# EAGLE library part NDS8434 (library Discrete)
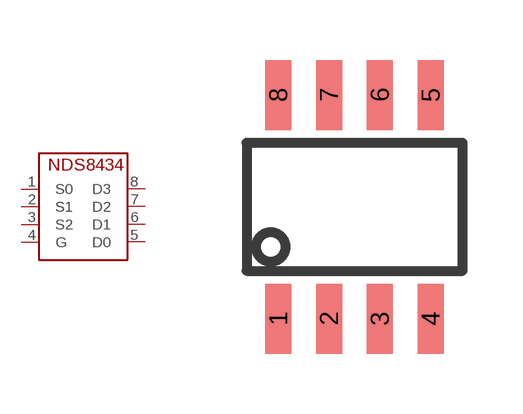
[diagram p17: symbol with the pads of SOIC8; footprint SOIC8]

Designator prefix T

## NDS8434NDS8434  [SOIC8]
1  S0
2  S1
3  S2
4  G
5  D0
6  D1
7  D2
8  D3

## Footprint SOIC8 (pad centres in mm)
Fairchild 8 Lead SOIC package
smd 0.65 x 1.75: 1 -1.905,-2.8; 2 -0.635,-2.8; 3 0.635,-2.8; 4 1.905,-2.8; 5 1.905,2.8; 6 0.635,2.8; 7 -0.635,2.8; 8 -1.905,2.8